# Altium footprint library adafruit.PCBLIB: 643 footprints (part 37 of 41)
Each footprint in its own frame and in the unit in brackets; x right, y up, seen from the top. Pads: shape width x height; smd on the part's side, far side on the other; paste and mask are expansions set on the pad; w line width, h text height; cw(c..) or ccw(c..) is an arc to the next point about the centre after c.
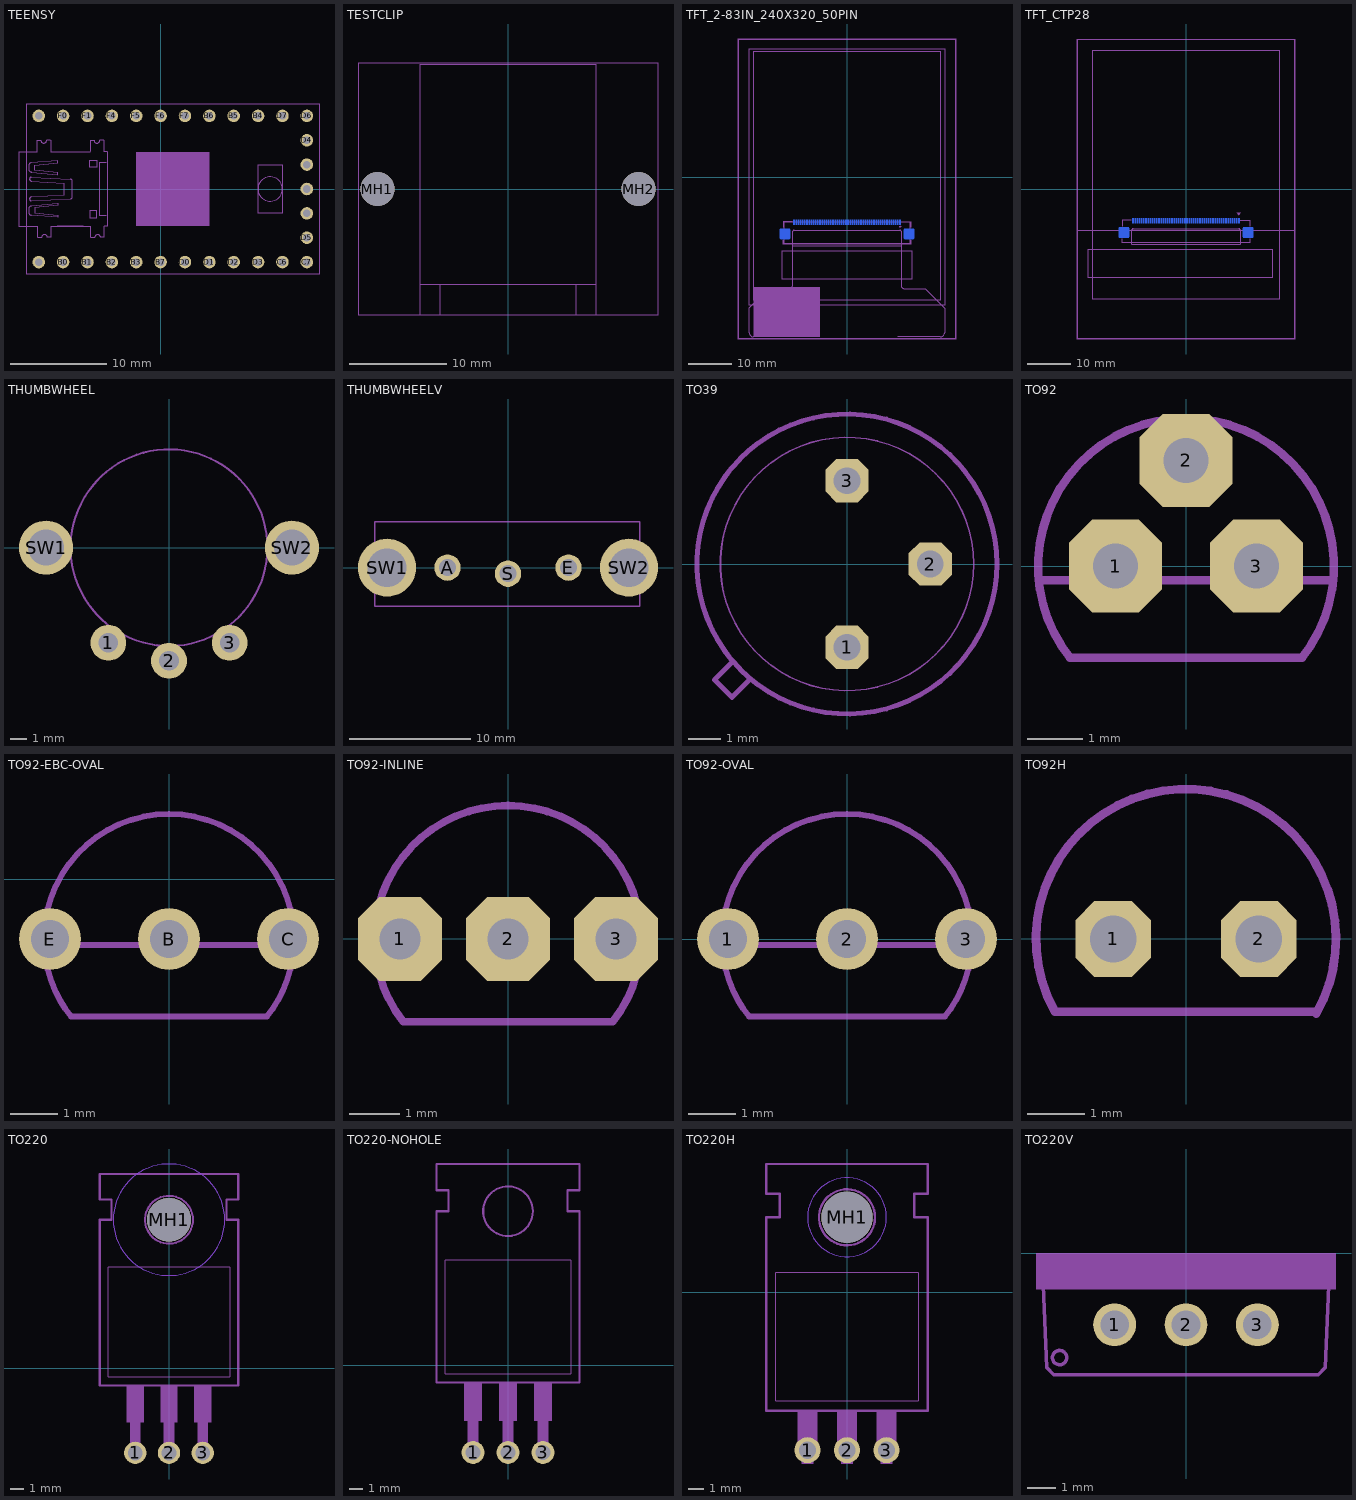
[diagram p36: the footprints below, top view; thin cyan lines are the x and y axes]

## TEENSY [mil]
pads (29):
  round 51.5 hole 31.5: B0(-400,-300) B1(-300,-300) B2(-200,-300) B3(-100,-300) B4(400,300) B5(300,300) B6(200,300) B7(0,-300) C6(500,-300) C7(600,-300) D0(100,-300) D1(200,-300) D2(300,-300) D3(400,-300) D4(600,200) D5(600,-200) D6(600,300) D7(500,300) F0(-400,300) F1(-300,300) F4(-200,300) F5(-100,300) F6(0,300) F7(100,300) GND(-500,-300) GND2(600,0) RST(600,100) VCC(600,-100) VCC1(-500,300)
tDocu:
  lines w4: -538.04,40.87 ccw(c-529.87,40.88) -529.86,32.7 -394.97,24.53 -394.97,-24.52 -529.86,-32.69 ccw(c-529.86,-40.87) -538.04,-40.87 ccw(c-529.87,-40.87) -529.86,-49.04 -370.44,-40.87 ccw(c-370.92,-32.22) -362.27,-32.69 -362.27,32.7 ccw(c-370.92,32.23) -370.44,40.88 -529.86,49.05 ccw(c-529.87,40.88) -538.04,40.88 ; -505.49,153.94 -505.49,199.21 ; -505.12,200 -491.34,200 ccw(c-479.53,200) -467.72,200 -451.97,200 ; -504.69,-198.03 -504.69,-152.76 ; -503.94,-198.82 -488.19,-198.82 cw(c-476.38,-198.82) -464.57,-198.82 -450.79,-198.82 ; -451.21,153.94 -451.21,199.21 ; -450.42,-198.03 -450.42,-152.76 ; -287.38,153.94 -287.38,199.21 ; -287.01,200 -273.23,200 ccw(c-261.42,200) -249.61,200 -233.86,200 ; -286.58,-198.03 -286.58,-152.76 ; -285.83,-198.82 -270.08,-198.82 cw(c-258.27,-198.82) -246.46,-198.82 -232.68,-198.82 ; -233.1,153.94 -233.1,199.21 ; -232.31,-198.03 -232.31,-152.76 ; -222.83,-108.27 -252.36,-108.27 -252.36,108.27 -222.83,108.27 ; -540.08,-100.14 ccw(c-528.98,-96.74) -529.86,-108.32 -421.54,-116.49 -421.54,-108.32 -515.56,-98.1 -515.56,-77.66 -421.54,-67.44 -421.54,-59.26 -529.86,-69.48 ccw(c-528.98,-81.06) -540.08,-77.66 ccw(c-503.43,-88.9) -540.08,-100.14 ; -540.08,77.67 cw(c-503.43,88.91) -540.08,100.15 cw(c-528.99,96.75) -529.86,108.32 -421.54,116.5 -421.54,108.32 -515.56,98.11 -515.56,77.67 -421.54,67.45 -421.54,59.27 -529.86,69.49 cw(c-528.98,81.07) -540.08,77.67 ; -291.73,-118.11 -291.73,-88.58 -262.2,-88.58 -262.2,-118.11 -291.73,-118.11 ; -291.73,88.58 -262.2,88.58 -262.2,118.11 -291.73,118.11 -291.73,88.58
  lines w5: -581.1,-153.54 -506.3,-153.54 ; -581.1,153.54 -506.3,153.54 ; -450.79,153.54 -289.37,153.54 ; -448.82,-153.54 -287.4,-153.54 ; -232.68,153.54 -218.9,153.54 ; -230.71,-153.54 -218.9,-153.54
bDocu:
  lines w5: -581.1,-153.54 -581.1,153.54 ; -218.9,-153.54 -218.9,153.54
tPlace:
  circle w5: c450,0 r50
  region: -100,-150 -100,150 200,150 200,-150
  lines w4: -538.04,40.87 -538.04,40.88
  lines w5: -423.62,-153.54 -317.32,-153.54 ; -423.62,153.54 -317.32,153.54 ; -218.9,-125.98 -218.9,-82.68 ; -218.9,82.68 -218.9,125.98 ; -550,-350 650,-350 650,350 -550,350 -550,-350 ; 400,-100 500,-100 500,100 400,100 400,-100

## TESTCLIP [mil]
pads (2):
  round 137.8 hole 137.8 unplated: MH1(-527.56,0) MH2(527.56,0)
tPlace:
  lines w5: -354.33,-507.87 -606.3,-507.87 -606.3,507.87 606.3,507.87 606.3,-507.87 354.33,-507.87 ; -354.33,-507.87 -275.59,-507.87 ; -354.33,-507.87 -354.33,-385.83 ; -354.33,-385.83 -354.33,503.94 354.33,503.94 354.33,-385.83 ; -354.33,-385.83 -275.59,-385.83 ; -275.59,-507.87 275.59,-507.87 ; -275.59,-507.87 -275.59,-385.83 ; -275.59,-507.87 275.59,-507.87 ; -275.59,-385.83 275.59,-385.83 ; 275.59,-507.87 354.33,-507.87 ; 275.59,-507.87 275.59,-385.83 ; 275.59,-385.83 354.33,-385.83 ; 354.33,-507.87 354.33,-385.83

## TFT_2-83IN_240X320_50PIN [mm]
pads (52):
  rect 0.275x1.2 smd far side mask+0: 1(12.25,-10.39) 2(11.75,-10.39) 3(11.25,-10.39) 4(10.75,-10.39) 5(10.25,-10.39) 6(9.75,-10.39) 7(9.25,-10.39) 8(8.75,-10.39) 9(8.25,-10.39) 10(7.75,-10.39) 11(7.25,-10.39) 12(6.75,-10.39) 13(6.25,-10.39) 14(5.75,-10.39) 15(5.25,-10.39) 16(4.75,-10.39) 17(4.25,-10.39) 18(3.75,-10.39) 19(3.25,-10.39) 20(2.75,-10.39) 21(2.25,-10.39) 22(1.75,-10.39) 23(1.25,-10.39) 24(0.75,-10.39) 25(0.25,-10.39) 26(-0.25,-10.39) 27(-0.75,-10.39) 28(-1.25,-10.39) 29(-1.75,-10.39) 30(-2.25,-10.39) 31(-2.75,-10.39) 32(-3.25,-10.39) 33(-3.75,-10.39) 34(-4.25,-10.39) 35(-4.75,-10.39) 36(-5.25,-10.39) 37(-5.75,-10.39) 38(-6.25,-10.39) 39(-6.75,-10.39) 40(-7.25,-10.39) 41(-7.75,-10.39) 42(-8.25,-10.39) 43(-8.75,-10.39) 44(-9.25,-10.39) 45(-9.75,-10.39) 46(-10.25,-10.39) 47(-10.75,-10.39) 48(-11.25,-10.39) 49(-11.75,-10.39) 50(-12.25,-10.39)
  rrect25% 2.4x2.4 smd far side: PAD1(14.35,-13.09) PAD2(-14.35,-13.09)
Bottom Solder:
  drawing of 50 lines, arcs and shapes, not listed
Milling:
  region: -21.59,-36.83 -21.59,-25.4 -6.35,-25.4 -6.35,-36.83
tDocu:
  lines w0.127: -11.8,-36.9 -12.1,-36.9 -21.7,-36.9 cw(c-21.7,-36) -22.6,-36 -22.6,-30.2 -18.2,-25.8 -13.5,-25.8 ccw(c-13.5,-24.8) -12.5,-24.8 -12.5,-15.8 ; 11.7,-36.9 21.6,-36.9 ccw(c21.6,-35.9) 22.6,-35.9 22.6,-30.3 18.1,-25.8 17.9,-25.8 13.4,-25.8 cw(c13.4,-24.9) 12.5,-24.9 12.5,-15.8 ; -12.5,-15.8 -12.5,-12.5 cw(c-12.2,-12.5) -12.2,-12.2 12.2,-12.2 cw(c12.2,-12.5) 12.5,-12.5 12.5,-15.8 ; -12.5,-15.8 12.5,-15.8 ; -25,-37.3 25,-37.3 25,31.9 -25,31.9 -25,-37.3 ; -22.6,-29.55 22.6,-29.55 22.6,29.8 -22.6,29.8 -22.6,-29.55 ; -21.6,-28.38 21.6,-28.38 21.6,29.22 -21.6,29.22 -21.6,-28.38 ; -15,-23.54 15,-23.54 15,-17 -15,-17 -15,-23.54
  text "2.83\" 240x320" at 0,1.2 h1.97
  text "TFT LCD Display" at 0,-1.5 h1.97
  text "50" at -11.2,-16.7 h0.86
  text "1" at 11.6,-16.7 h0.86
  text "XL" at -19.5,0 h1.42
  text "XR" at 19.5,0 h1.42
  text "YU" at 0,27.5 h1.42
  text "YD" at 0,-27 h1.42
  text "Suggested Cutout Zone" at 0,-22.5 h1.26
  text "Captouch chip" at 8.89,-33.02 h1.97
bDocu:
  lines w0.127: 12.3,-11.39 12.4,-11.49 ; 12.4,-11.49 12.1,-11.49 12.3,-11.29 12.5,-11.49 12.4,-11.49 ; -14.65,-15.39 -14.65,-10.39 14.65,-10.39 14.65,-15.39 -14.65,-15.39
tPlace:
  lines w0.127: -25.1,-37.4 25.1,-37.4 25.1,32 -25.1,32 -25.1,-37.4
bPlace:
  lines w0.127: -14.8,-14.59 -14.8,-15.49 14.8,-15.49 14.8,-14.59 ; -14.8,-11.59 -14.8,-10.29 -12.7,-10.29 ; 12.6,-10.29 14.8,-10.29 14.8,-11.59

## TFT_CTP28 [mm]
pads (52):
  rect 0.275x1.2 smd far side mask+0: 1(12.25,-7.36) 2(11.75,-7.36) 3(11.25,-7.36) 4(10.75,-7.36) 5(10.25,-7.36) 6(9.75,-7.36) 7(9.25,-7.36) 8(8.75,-7.36) 9(8.25,-7.36) 10(7.75,-7.36) 11(7.25,-7.36) 12(6.75,-7.36) 13(6.25,-7.36) 14(5.75,-7.36) 15(5.25,-7.36) 16(4.75,-7.36) 17(4.25,-7.36) 18(3.75,-7.36) 19(3.25,-7.36) 20(2.75,-7.36) 21(2.25,-7.36) 22(1.75,-7.36) 23(1.25,-7.36) 24(0.75,-7.36) 25(0.25,-7.36) 26(-0.25,-7.36) 27(-0.75,-7.36) 28(-1.25,-7.36) 29(-1.75,-7.36) 30(-2.25,-7.36) 31(-2.75,-7.36) 32(-3.25,-7.36) 33(-3.75,-7.36) 34(-4.25,-7.36) 35(-4.75,-7.36) 36(-5.25,-7.36) 37(-5.75,-7.36) 38(-6.25,-7.36) 39(-6.75,-7.36) 40(-7.25,-7.36) 41(-7.75,-7.36) 42(-8.25,-7.36) 43(-8.75,-7.36) 44(-9.25,-7.36) 45(-9.75,-7.36) 46(-10.25,-7.36) 47(-10.75,-7.36) 48(-11.25,-7.36) 49(-11.75,-7.36) 50(-12.25,-7.36)
  rrect25% 2.4x2.4 smd far side: PAD1(14.35,-10.06) PAD2(-14.35,-10.06)
tDocu:
  lines w0.127: -25,-9.6 -25,-34.6 25,-34.6 25,-9.6 ; -25,-9.6 -25,34.6 25,34.6 25,-9.6 ; -25,-9.6 25,-9.6 ; -22.62,-20.51 20,-20.51 20,-13.97 -22.62,-13.97 -22.62,-20.51 ; -21.6,-25.5 21.6,-25.5 21.6,32.1 -21.6,32.1 -21.6,-25.5 ; -12.5,-12.77 -12.5,-9.47 cw(c-12.2,-9.47) -12.2,-9.17 12.2,-9.17 cw(c12.2,-9.47) 12.5,-9.47 12.5,-12.77 -12.5,-12.77
  text "2.83\"" at 0,27.657 h2.6
  text "240x320 Display" at 0,25.143 h2.6
  text "Capacitive Touch Panel" at 0,21 h2.6
  text "50" at -11.2,-13.67 h0.86
  text "1" at 11.6,-13.67 h0.86
  text "Suggested Cutout Zone" at 0,-19.47 h1.26
tPlace:
  lines w0.127: -25.1,-34.7 25.1,-34.7 25.1,34.7 -25.1,34.7 -25.1,-34.7
bPlace:
  region: 12.2,-6.03 11.7,-5.53 12.7,-5.53
  lines w0.127: -14.8,-11.56 -14.8,-12.46 14.8,-12.46 14.8,-11.56 ; -14.8,-8.56 -14.8,-7.26 -12.7,-7.26 ; 12.6,-7.26 14.8,-7.26 14.8,-8.56

## THUMBWHEEL [mil]
pads (5):
  round 86 hole 47.24: 1(-145.67,-228.35) 2(0,-271.65) 3(145.67,-228.35)
  round 129.91 hole 86.61: SW1(-295.28,0) SW2(295.28,0)
tPlace:
  circle w5: c0,0 r236.22

## THUMBWHEELV [mil]
pads (5):
  round 86 hole 55.12: A(-196.85,0) E(196.85,0) S(0,-19.69)
  round 188.97 hole 125.98: SW1(-393.7,0) SW2(393.7,0)
tPlace:
  lines w5: -433.07,-125.98 -433.07,149.61 429.13,149.61 429.13,-125.98 -433.07,-125.98

## TO39 [mil]
pads (3):
  oct 52x52 / inner round 48.04 / far side oct 52x52 hole 32: 1(0,-100) 2(100,0) 3(0,100)
tPlace:
  circle w6: c0,0 r180
  circle w2: c0,0 r152
  lines w6: -138,-118 -159,-139 -138,-160 -117,-139

## TO92 [mil]
pads (3):
  oct 66x66 / inner round 60.98 / far side oct 66x66 hole 32: 1(-50,0) 2(0,75) 3(50,0)
tDocu:
  lines w6: -88.74,-10 -11.26,-10 ; -30.96,100.33 cw(c0,0) 30.96,100.33 ; 11.26,-10 88.74,-10
tPlace:
  lines w6: -104.53,-10 -88.74,-10 ; -30.98,100.33 ccw(c-0.02,0) -82.48,-65 82.48,-65 ccw(c0.02,0) 30.98,100.33 ; -11.26,-10 11.26,-10 ; 88.74,-10 104.53,-10

## TO92-EBC-OVAL [mil]
pads (3):
  round 52 hole 32: B(0,-50) C(100,-50) E(-100,-50)
tDocu:
  lines w5: -104.88,-55 -55.28,-55 ; -95,-94.72 cw(c0,-50) -95,-5.28 ; -44.72,-55 44.72,-55 ; 55.28,-55 104.88,-55 ; 95,-94.72 ccw(c0,-50) 95,-5.28
tPlace:
  lines w5: -95.02,-94.72 ccw(c-0.02,-49.99) -82.48,-115 82.48,-115 ccw(c0.01,-50) 95.46,-93.77 ; -95,-5.28 cw(c0,-50) 95,-5.28 ; -55.28,-55 -44.72,-55 ; 44.72,-55 55.28,-55

## TO92-INLINE [mil]
pads (3):
  oct 66x66 / inner round 60.98 / far side oct 66x66 hole 32: 1(-85,0) 2(0,0) 3(85,0)
tDocu:
  lines w6: -30.96,100.33 cw(c0,-0.02) 30.96,100.33
tPlace:
  lines w6: -104.53,-10 -88.74,-10 ; -82.48,-65 82.48,-65 ccw(c0.02,0) 30.98,100.33 ; -82.46,-65 cw(c0,0) -30.96,100.33 ; 88.74,-10 104.53,-10

## TO92-OVAL [mil]
pads (3):
  round 52 hole 32: 1(-100,0) 2(0,0) 3(100,0)
tDocu:
  lines w5: -104.88,-5 -55.28,-5 ; -95,-44.72 cw(c0,0) -95,44.72 ; -44.72,-5 44.72,-5 ; 55.28,-5 104.88,-5 ; 95,-44.72 ccw(c0,0) 95,44.72
tPlace:
  lines w5: -95.02,-44.72 ccw(c-0.02,0.01) -82.48,-65 82.48,-65 ccw(c0.01,0) 95.46,-43.77 ; -95,44.72 cw(c0,0) 95,44.72 ; -55.28,-5 -44.72,-5 ; 44.72,-5 55.28,-5

## TO92H [mil]
pads (2):
  oct 52x52 / inner round 48.04 / far side oct 52x52 hole 32: 1(-50,0) 2(50,0)
tPlace:
  lines w6: 89.39,-51.08 ccw(c0,0) -90,-50 90,-50

## TO220 [mil]
pads (4):
  round 66 hole 44: 1(-100,-250) 2(0,-250) 3(100,-250)
  round 130 hole 130 unplated: MH1(0,440)
Top keep-out:
  circle w0: c0,440 r165
Bottom keep-out:
  circle w0: c0,440 r165
tDocu:
  region: -115,-260 -115,-185 -85,-185 -85,-260
  region: -15,-260 -15,-185 15,-185 15,-260
  region: 85,-260 85,-185 115,-185 115,-260
  text "1" at -125,0 h77.5
  text "2" at -25,0 h77.5
  text "3" at 75,0 h77.5
tPlace:
  circle w6: c0,440 r71
  region: 85,-185 85,-160 115,-160 115,-185
  region: -15,-185 -15,-160 15,-160 15,-185
  region: -115,-185 -115,-160 -85,-160 -85,-185
  region: -125,-160 -125,-50 -75,-50 -75,-160
  region: -25,-160 -25,-50 25,-50 25,-160
  region: 75,-160 75,-50 125,-50 125,-160
  lines w2: -180,-25 180,-25 180,300 -180,300 -180,-25
  lines w6: -205,-50 205,-50 205,440 170,440 170,500 205,500 205,575 -205,575 -205,500 -170,500 -170,440 -205,440 -205,-50
  text "A17,5mm" at -175,310 h62

## TO220-NOHOLE [mil]
pads (3):
  round 66 hole 44: 1(-100,-250) 2(0,-250) 3(100,-250)
tDocu:
  region: -115,-260 -115,-185 -85,-185 -85,-260
  region: -15,-260 -15,-185 15,-185 15,-260
  region: 85,-260 85,-185 115,-185 115,-260
  text "1" at -125,0 h77.5
  text "2" at -25,0 h77.5
  text "3" at 75,0 h77.5
tPlace:
  circle w6: c0,440 r71
  region: 85,-185 85,-160 115,-160 115,-185
  region: -15,-185 -15,-160 15,-160 15,-185
  region: -115,-185 -115,-160 -85,-160 -85,-185
  region: -125,-160 -125,-50 -75,-50 -75,-160
  region: -25,-160 -25,-50 25,-50 25,-160
  region: 75,-160 75,-50 125,-50 125,-160
  lines w2: -180,-25 180,-25 180,300 -180,300 -180,-25
  lines w6: -205,-50 205,-50 205,440 170,440 170,500 205,500 205,575 -205,575 -205,500 -170,500 -170,440 -205,440 -205,-50
  text "A17,5mm" at -175,310 h62

## TO220H [mil]
pads (4):
  round 66 hole 44: 1(-100,-400) 2(0,-400) 3(100,-400)
  round 130 hole 130 unplated: MH1(0,190)
Top keep-out:
  circle w0: c0,190 r100
Bottom keep-out:
  circle w0: c0,190 r100
tPlace:
  circle w6: c0,190 r71
  region: 85,-435 85,-410 115,-410 115,-435
  region: -15,-435 -15,-410 15,-410 15,-435
  region: -115,-435 -115,-410 -85,-410 -85,-435
  region: -125,-410 -125,-300 -75,-300 -75,-410
  region: -25,-410 -25,-300 25,-300 25,-410
  region: 75,-410 75,-300 125,-300 125,-410
  lines w2: -180,-275 180,-275 180,50 -180,50 -180,-275
  lines w6: -205,-300 205,-300 205,190 170,190 170,250 205,250 205,325 -205,325 -205,250 -170,250 -170,190 -205,190 -205,-300

## TO220V [mil]
pads (3):
  round 60 hole 40: 1(-100,-100) 2(0,-100) 3(100,-100)
tDocu:
  region: -135,-50 -135,-30 -65,-30 -65,-50
  region: -35,-50 -35,-30 35,-30 35,-50
  region: 65,-50 65,-30 135,-30 135,-50
  text "1" at -125,-125 h77.5
  text "2" at -25,-125 h77.5
  text "3" at 75,-125 h77.5
tPlace:
  circle w5: c-177,-146 r10
  region: -210,-30 -210,0 210,0 210,-30
  region: -210,-50 -210,-30 -135,-30 -135,-50
  region: -65,-50 -65,-30 -35,-30 -35,-50
  region: 35,-50 35,-30 65,-30 65,-50
  region: 135,-50 135,-30 210,-30 210,-50
  lines w5: -200,-45 -195,-160 -185,-170 185,-170 195,-160 200,-45